# Altium schematic symbol library MAX17643ATC+.SchLib: 1 symbol
Pins are listed as number, name and electrical type; pins without a type are passive.

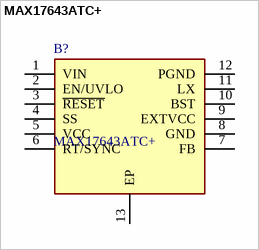
[diagram p0: symbol MAX17643ATC+]

## MAX17643ATC+
designator B?
4.5V60V, 2A, High-Efficiency, Synchronous Step-Down DC-DC Converter with Internal Compensation; Manufacturer_Name: Analog Devices; Geometry.Height: 0.8mm; Manufacturer_Part_Number: MAX17643ATC+; Mouser Part Number: 700-MAX17643ATC+; Mouser Price/Stock: https://www.mouser.co.uk/ProductDetail/Analog-Devices-Maxim-Integrated/MAX17643ATC%2b?qs=stqOd1AaK79ynIqydR3dRA%3D%3D; Arrow Part Number: MAX17643ATC+; Arrow Price/Stock: https://www.arrow.com/en/products/max17643atc/analog-devices?utm_currency=USD&region=nac; Datasheet Link: https://www.analog.com/MAX17643/datasheet
footprint SON50P300X300X80-13N
pins: 1 VIN, 2 EN/UVLO, 3 ~{RESET}, 4 SS, 5 VCC, 6 RT/SYNC, 7 FB, 8 GND, 9 EXTVCC, 10 BST, 11 LX, 12 PGND, 13 EP